# Altium footprint library PCB1.PcbLib: 37 footprints (part 2 of 3)
Each footprint in its own frame and in the unit in brackets; x right, y up, seen from the top. Pads: shape width x height; smd on the part's side, far side on the other; paste and mask are expansions set on the pad; w line width, h text height; cw(c..) or ccw(c..) is an arc to the next point about the centre after c.
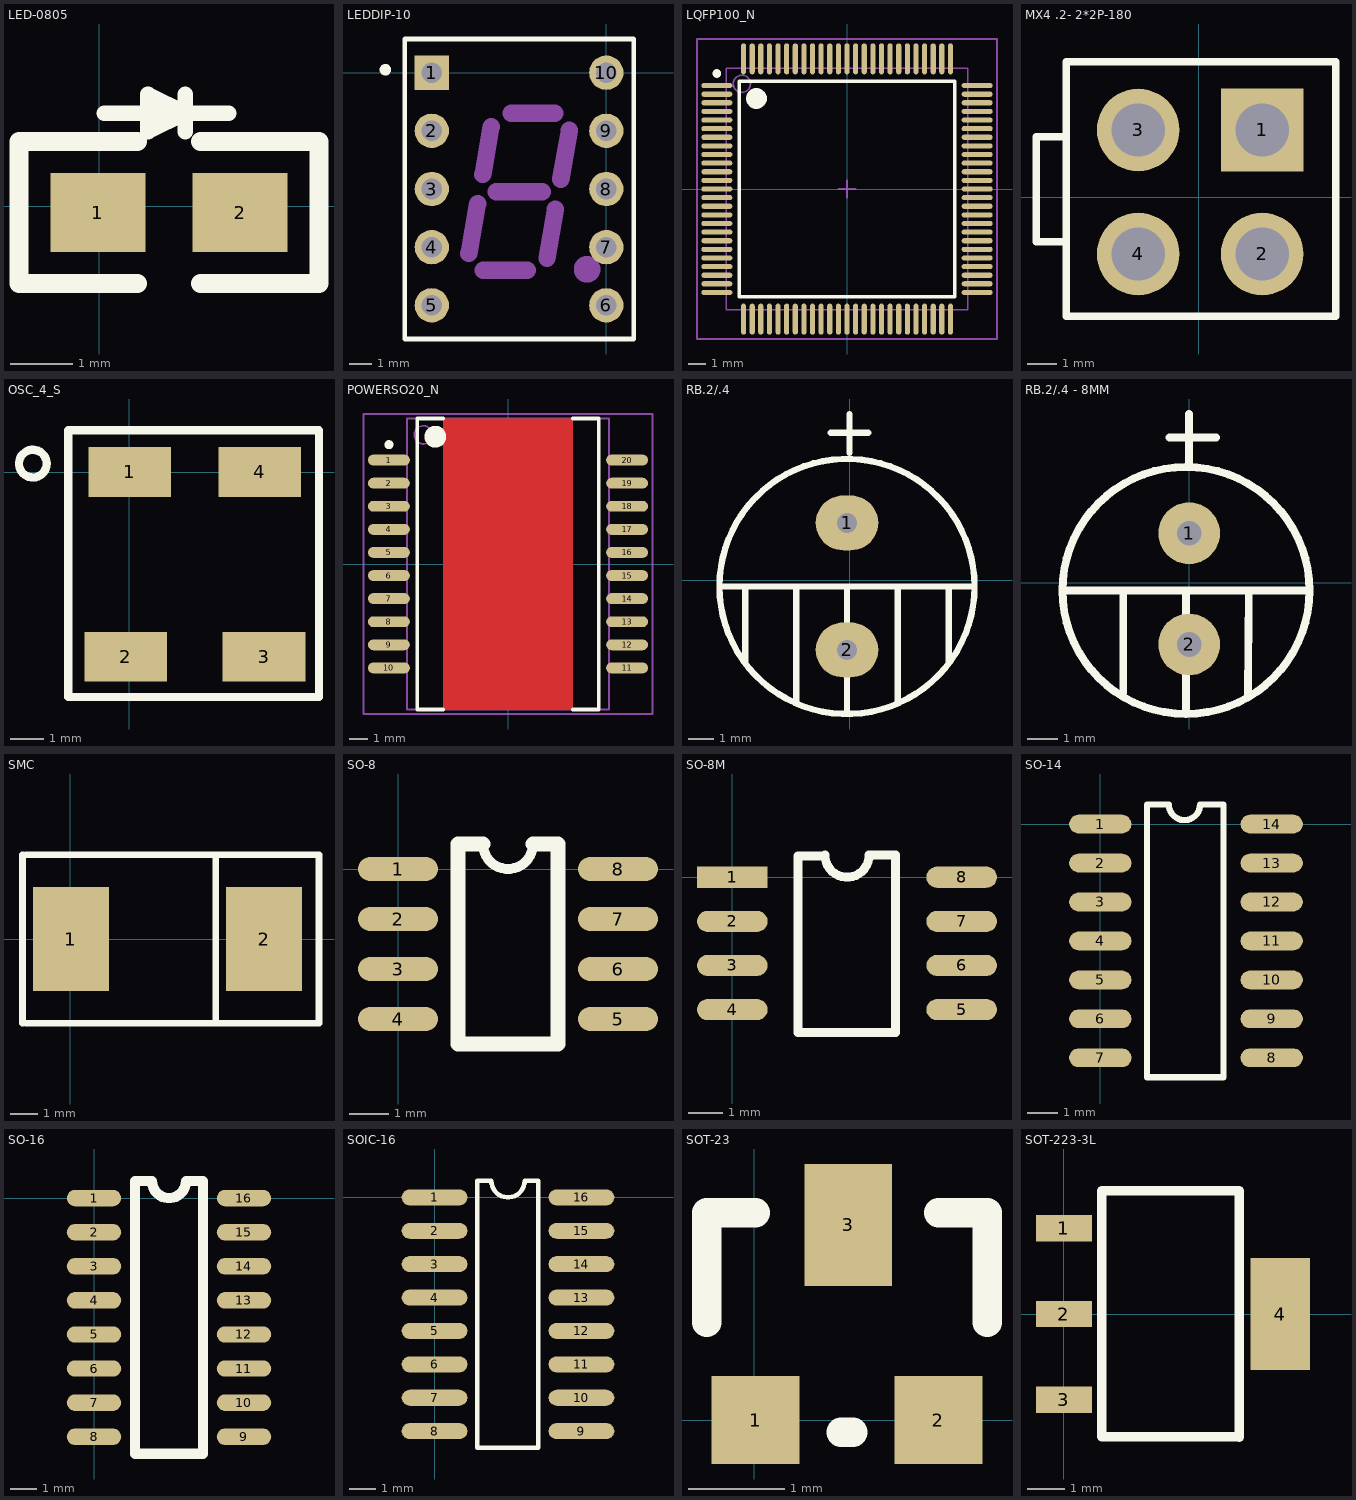
[diagram p1: the footprints below, top view; thin cyan lines are the x and y axes]

## LED-0805 [mil]
height 509.06
pads (2):
  rect 60x50 smd: 1(-0.93,-4.09) 2(89.07,-4.09)
Top Overlay:
  lines w9.84: 3.2,58.91 81.94,58.91 ; 54.39,47.09 54.39,70.72 ; 30.76,47.09 30.76,70.72 54.39,58.91 30.76,47.09
  lines w12: 24.07,-49.09 -50.93,-49.09 -50.93,40.91 24.07,40.91 ; 64.07,-49.09 139.07,-49.09 139.07,40.91 64.07,40.91

## LEDDIP-10 [mm] "LED, 7-Segment Display, 7.62 mm, RHD; 10 Leads; Row Space 5.08 mm; Pitch 2.54 mm"
height 6.34
pads (10):
  rect 1.5x1.5 hole 0.9: 1(-7.62,0)
  round 1.5 hole 0.9: 2(-7.62,-2.54) 3(-7.62,-5.08) 4(-7.62,-7.62) 5(-7.62,-10.16) 6(0,-10.16) 7(0,-7.62) 8(0,-5.08) 9(0,-2.54) 10(0,0)
Top Overlay:
  circle w0.25: c-9.65,0.127 r0.125
  lines w0.2: -8.81,-11.63 -8.81,1.47 1.19,1.47 1.19,-11.63 -8.763,-11.63
Mechanical 1:
  circle w0.86: c-0.84,-8.587 r0.15
  lines w0.762: -6,-7.897 -5.62,-5.727 ; -5.39,-4.447 -5.03,-2.367 ; -5.37,-8.637 -3.45,-8.637 ; -4.802,-5.207 -2.794,-5.207 ; -4.15,-1.777 -2.26,-1.777 ; -2.59,-8.097 -2.22,-5.967 ; -1.99,-4.647 -1.61,-2.517

## LQFP100_N [mm] "Thin QFP, 100-Leads, Body 14x14mm, Pitch 0.5mm, IPC Medium Density"
height 1.6
pads (100):
  oval 1.8x0.3 smd: 1(-7.55,6) 2(-7.55,5.5) 3(-7.55,5) 4(-7.55,4.5) 5(-7.55,4) 6(-7.55,3.5) 7(-7.55,3) 8(-7.55,2.5) 9(-7.55,2) 10(-7.55,1.5) 11(-7.55,1) 12(-7.55,0.5) 13(-7.55,0) 14(-7.55,-0.5) 15(-7.55,-1) 16(-7.55,-1.5) 17(-7.55,-2) 18(-7.55,-2.5) 19(-7.55,-3) 20(-7.55,-3.5) 21(-7.55,-4) 22(-7.55,-4.5) 23(-7.55,-5) 24(-7.55,-5.5) 25(-7.55,-6) 51(7.55,-6) 52(7.55,-5.5) 53(7.55,-5) 54(7.55,-4.5) 55(7.55,-4) 56(7.55,-3.5) 57(7.55,-3) 58(7.55,-2.5) 59(7.55,-2) 60(7.55,-1.5) 61(7.55,-1) 62(7.55,-0.5) 63(7.55,0) 64(7.55,0.5) 65(7.55,1) 66(7.55,1.5) 67(7.55,2) 68(7.55,2.5) 69(7.55,3) 70(7.55,3.5) 71(7.55,4) 72(7.55,4.5) 73(7.55,5) 74(7.55,5.5) 75(7.55,6)
  oval 0.3x1.8 smd: 26(-6,-7.55) 27(-5.5,-7.55) 28(-5,-7.55) 29(-4.5,-7.55) 30(-4,-7.55) 31(-3.5,-7.55) 32(-3,-7.55) 33(-2.5,-7.55) 34(-2,-7.55) 35(-1.5,-7.55) 36(-1,-7.55) 37(-0.5,-7.55) 38(0,-7.55) 39(0.5,-7.55) 40(1,-7.55) 41(1.5,-7.55) 42(2,-7.55) 43(2.5,-7.55) 44(3,-7.55) 45(3.5,-7.55) 46(4,-7.55) 47(4.5,-7.55) 48(5,-7.55) 49(5.5,-7.55) 50(6,-7.55) 76(6,7.55) 77(5.5,7.55) 78(5,7.55) 79(4.5,7.55) 80(4,7.55) 81(3.5,7.55) 82(3,7.55) 83(2.5,7.55) 84(2,7.55) 85(1.5,7.55) 86(1,7.55) 87(0.5,7.55) 88(0,7.55) 89(-0.5,7.55) 90(-1,7.55) 91(-1.5,7.55) 92(-2,7.55) 93(-2.5,7.55) 94(-3,7.55) 95(-3.5,7.55) 96(-4,7.55) 97(-4.5,7.55) 98(-5,7.55) 99(-5.5,7.55) 100(-6,7.55)
Top Overlay:
  circle w0.25: c-7.55,6.7 r0.125
  circle w0.6: c-5.25,5.25 r0.3
  lines w0.2: -6.25,-6.25 -6.25,6.25 6.25,6.25 6.25,-6.25 -6.25,-6.25
Mechanical 13:
  circle w0.1: c-6.1,6.1 r0.5
  lines w0.1: -7,-7 -7,7 7,7 7,-7 -7,-7
Mechanical 15:
  lines w0.1: -0.5,0 0.5,0 ; 0,-0.5 0,0.5 ; -8.7,-8.7 -8.7,8.7 8.7,8.7 8.7,-8.7 -8.7,-8.7
3D body: height 1.6, standoff 0, extent -7,-7 7,7

## MX4 .2- 2*2P-180 [mm]
pads (4):
  rect 2.8x2.8 hole 1.8: 1(2.15,2.275)
  round 2.8 hole 1.8: 2(2.15,-1.925) 3(-2.05,2.275) 4(-2.05,-1.925)
Top Overlay:
  lines w0.254: -4.495,-1.502 -5.511,-1.502 -5.511,2.054 -4.495,2.054 ; -4.495,-4.042 -4.495,4.086 -4.495,4.594 4.649,4.594 4.649,4.086 4.649,-4.042 -4.495,-4.042

## OSC_4_S [mm]
pads (4):
  rect 2.5x1.5 smd: 1(0.012,0.002) 2(-0.115,-5.586) 3(4.076,-5.586) 4(3.949,0.002)
Top Overlay:
  circle w0.254: c-2.921,0.254 r0.419
  lines w0.254: -1.854,-6.807 -1.854,1.27 5.74,1.27 5.74,-6.807 -1.854,-6.807

## POWERSO20_N [mm] "SOP, 20-Leads, Body 15.9x11mm, Pitch 1.27mm, IPC Medium Density"
height 3.6
pads (20):
  oval 2.3x0.6 smd: 1(-6.55,5.715) 2(-6.55,4.445) 3(-6.55,3.175) 4(-6.55,1.905) 5(-6.55,0.635) 6(-6.55,-0.635) 7(-6.55,-1.905) 8(-6.55,-3.175) 9(-6.55,-4.445) 10(-6.55,-5.715) 11(6.55,-5.715) 12(6.55,-4.445) 13(6.55,-3.175) 14(6.55,-1.905) 15(6.55,-0.635) 16(6.55,0.635) 17(6.55,1.905) 18(6.55,3.175) 19(6.55,4.445) 20(6.55,5.715)
Top Layer:
  rectangle: -3.575,-8 3.575,8
Top Overlay:
  circle w0.25: c-6.55,6.565 r0.125
  circle w0.6: c-4,7 r0.3
  lines w0.2: -3.575,-8 -5,-8 -5,8 -3.575,8 ; 3.575,-8 5,-8 5,8 3.575,8
Top Solder:
  rectangle: -3.683,-8.128 3.683,8.128
Mechanical 13:
  circle w0.1: c-4.65,7.1 r0.5
  lines w0.1: -5.55,-8 -5.55,8 5.55,8 5.55,-8 -5.55,-8
Mechanical 15:
  lines w0.1: -0.5,0 0.5,0 ; 0,-0.5 0,0.5 ; -7.95,-8.25 -7.95,8.25 7.95,8.25 7.95,-8.25 -7.95,-8.25
3D body: height 3.6, standoff 0, extent -5.55,-8 5.55,8

## RB.2/.4 [mm]
pads (2):
  oval 2.5x2.2 hole 0.8: 1(-0.102,2.288) 2(-0.102,-2.792)
Top Overlay:
  circle w0.254: c-0.102,-0.252 r5.1
  lines w0.254: -5.182,-0.252 4.978,-0.252 ; -4.166,-3.3 -4.166,-0.252 ; -2.134,-4.824 -2.134,-0.252 ; -0.75,5.892 0.75,5.892 ; -0.102,-5.332 -0.102,-0.252 ; 0,5.092 0,6.642 ; 1.93,-4.824 1.93,-0.252 ; 3.962,-3.3 3.962,-0.252

## RB.2/.4 - 8MM [mm]
pads (2):
  round 2 hole 0.8: 1(0,1.6) 2(0,-2)
Top Overlay:
  circle w0.254: c-0.102,-0.252 r4
  lines w0.254: -4.064,-0.252 3.81,-0.252 ; -2.134,-3.556 -2.134,-0.252 ; -0.635,4.699 0.865,4.699 ; -0.102,-4.191 -0.102,-0.252 ; 0,3.911 0,5.461 ; 1.905,-3.683 1.93,-0.252

## SMC [mil]
pads (2):
  rect 110x150 smd: 1(0.48,0.14) 2(280.48,0.14)
Top Overlay:
  lines w10: -69.52,-121.86 -69.52,122.14 ; -64.52,-121.86 360,-121.86 360,122.14 -64.52,122.14 ; 210.48,-121.86 210.48,122.14

## SO-8 [mil]
pads (8):
  oval 80x24 smd: 1(0,0) 2(0,-50) 3(0,-100) 4(0,-150) 5(220,-150) 6(220,-100) 7(220,-50) 8(220,0)
Top Overlay:
  lines w10: 85,25 ccw(c110,25) 135,25
  lines w15: 85,25 60,25 60,-175 160,-175 160,25 135,25

## SO-8M [mil]
pads (8):
  rect 80x24 smd: 1(0,0)
  oval 80x24 smd: 2(0,-50) 3(0,-100) 4(0,-150) 5(259.84,-150) 6(259.84,-100) 7(259.84,-50) 8(259.84,0)
Top Overlay:
  lines w10: 105,23.94 74.39,23.94 74.39,-176.06 185,-176.06 185,25 155,25 cw(c130,25) 105,25

## SO-14 [mil]
pads (14):
  oval 80x24 smd: 1(0,0) 2(0,-50) 3(0,-100) 4(0,-150) 5(0,-200) 6(0,-250) 7(0,-300) 8(220,-300) 9(220,-250) 10(220,-200) 11(220,-150) 12(220,-100) 13(220,-50) 14(220,0)
Top Overlay:
  lines w8: 60,-325 60,25 88,25 ccw(c108,25) 128,25 158,25 158,-325 60,-325

## SO-16 [mil]
pads (16):
  oval 80x24 smd: 1(0,0) 2(0,-50) 3(0,-100) 4(0,-150) 5(0,-200) 6(0,-250) 7(0,-300) 8(0,-350) 9(220,-350) 10(220,-300) 11(220,-250) 12(220,-200) 13(220,-150) 14(220,-100) 15(220,-50) 16(220,0)
Top Overlay:
  lines w15: 60,-375 60,25 85,25 ccw(c110,25) 135,25 160,25 160,-375 60,-375

## SOIC-16 [mm]
pads (16):
  oval 2.5x0.61 smd: 1(-0.004,0.004) 2(-0.004,-1.266) 3(-0.004,-2.536) 4(-0.004,-3.806) 5(-0.004,-5.076) 6(-0.004,-6.346) 7(-0.004,-7.616) 8(-0.004,-8.886) 9(5.584,-8.886) 10(5.584,-7.616) 11(5.584,-6.346) 12(5.584,-5.076) 13(5.584,-3.806) 14(5.584,-2.536) 15(5.584,-1.266) 16(5.584,0.004)
Top Overlay:
  lines w0.178: 1.626,-9.521 3.937,-9.521 3.937,0.639 3.425,0.639 cw(c2.79,0.639) 2.155,0.639 1.626,0.639 1.626,-9.521

## SOT-23 [mil]
pads (3):
  rect 36x36 smd: 1(0.48,0.14) 2(75.48,0.14)
  rect 36x50 smd: 3(38.48,80.14)
Top Overlay:
  lines w12: -19.52,40.14 -19.52,85.14 0.48,85.14 ; 35.48,-4.86 40.48,-4.86 ; 75.48,85.14 95.48,85.14 95.48,40.14

## SOT-223-3L [mm] "LM1117"
pads (4):
  rect 1.5x0.7 smd: 1(0,2.3) 2(0,0) 3(0,-2.3)
  rect 1.6x3 smd: 4(5.8,0)
Top Overlay:
  lines w0.254: 4.695,-3.298 1.016,-3.298 1.016,3.302 4.699,3.302 4.699,-3.298 4.699,-3.302